# EAGLE library part AP65211 (library DiodesInc)
Buck Switching Regulator IC Positive Adjustable 0.8V 1 Output 2A
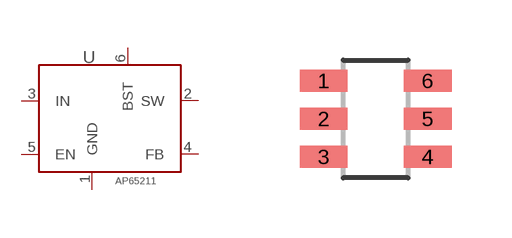
[diagram p0: symbol with the pads of SOT23-6; footprint SOT23-6]

Designator prefix U

## AP65211 (DIGIKEY: AP65211WU-7DITR-ND; MFR: Diodes Inc.; MPN: AP65211WU-7; P1I: o)  [SOT23-6]
1  GND
2  SW
3  IN
4  FB
5  EN
6  BST

## Footprint SOT23-6 (pad centres in mm)
SOT-23 - DBV 0.95 mm pitch
smd 1.2 x 0.55: 1 -1.427,0.95; 2 -1.427,0; 3 -1.427,-0.95; 4 1.173,-0.95; 5 1.173,0; 6 1.173,0.95